# Altium schematic symbol library LT3757.SchLib: 1 symbol
Pins are listed as number, name and electrical type; pins without a type are passive.

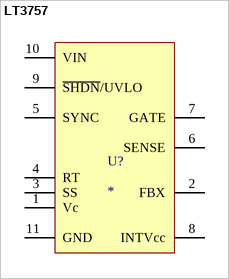
[diagram p0: symbol LT3757]

## LT3757
designator U?
Manufacturer: Linear Technology; Part No.: LT3757; Vendor: Linear Technology; Price Est.: $2.94
footprint MSOP-10 (MSE) (MSE MSOP-10 Linear Technology 10-Lead PLASTIC MSOP Exposed Ground (LT3757))
pins: 1 Vc, 2 FBX, 3 SS, 4 RT, 5 SYNC, 6 SENSE, 7 GATE, 8 INTVcc, 9 ~{SHDN}/UVLO, 10 VIN, 11 GND